# EAGLE library part USBX2 (library graftel-internal-ic)
https://www.digikey.com/product-detail/en/cnc-tech/1002-004-01010/1175-1018-ND/3064749
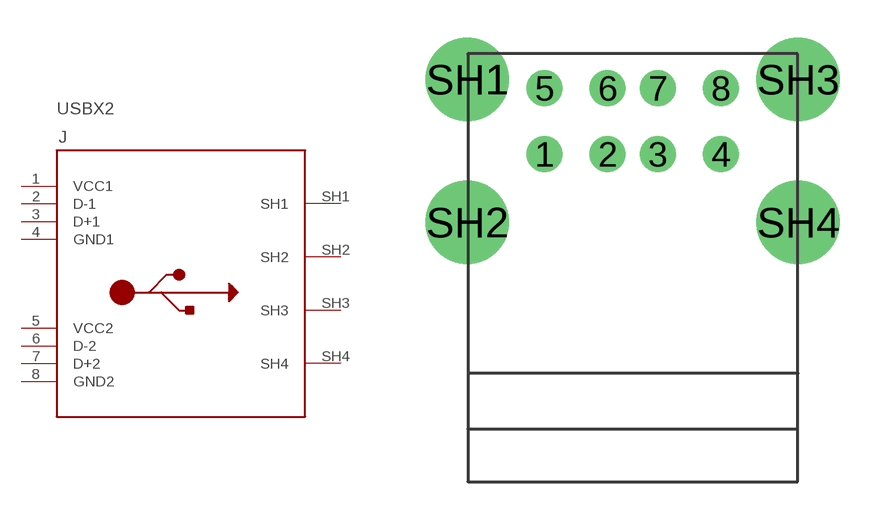
[diagram p40: symbol with the pads of USB_AX2; footprint USB_AX2]

Designator prefix J

## USBX2  [USB_AX2]
1  VCC1
2  D-1
3  D+1
4  GND1
5  VCC2
6  D-2
7  D+2
8  GND2
SH1  SH1
SH2  SH2
SH3  SH3
SH4  SH4

## Footprint USB_AX2 (pad centres in mm)
drill 0.92: 1 -3.5,2.71; 2 -1,2.71; 3 1,2.71; 4 3.5,2.71; 5 -3.5,5.33; 6 -1,5.33; 7 1,5.33; 8 3.5,5.33
drill 2.3: SH1 -6.57,5.68; SH2 -6.57,0; SH3 6.57,5.68; SH4 6.57,0